# Altium schematic symbol library components.SchLib: 4 symbols
Pins are listed as number, name and electrical type; pins without a type are passive.

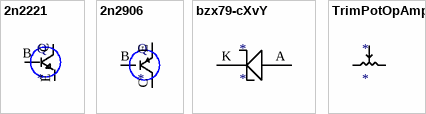
[diagram p0: symbols 2n2221 to TrimPotOpAmp]

## 2n2221
designator Q
footprint TO-18; pin to pad B>2 C>3 E>1
pins: B, C 23, E 22

## 2n2906
designator Q
footprint TO-18; pin to pad B>2 C>3 E>1
pins: B, C 22, E 23

## bzx79-cXvY
designator *
footprint DIOAD829W49L456D191; pin to pad K>C
pins: A 26, K 25

## TrimPotOpAmp
designator *
footprint potMeter_3328P
pins: 1, 2, 3